# Altium schematic symbol library Comp.SchLib: 212 symbols (part 2 of 2)
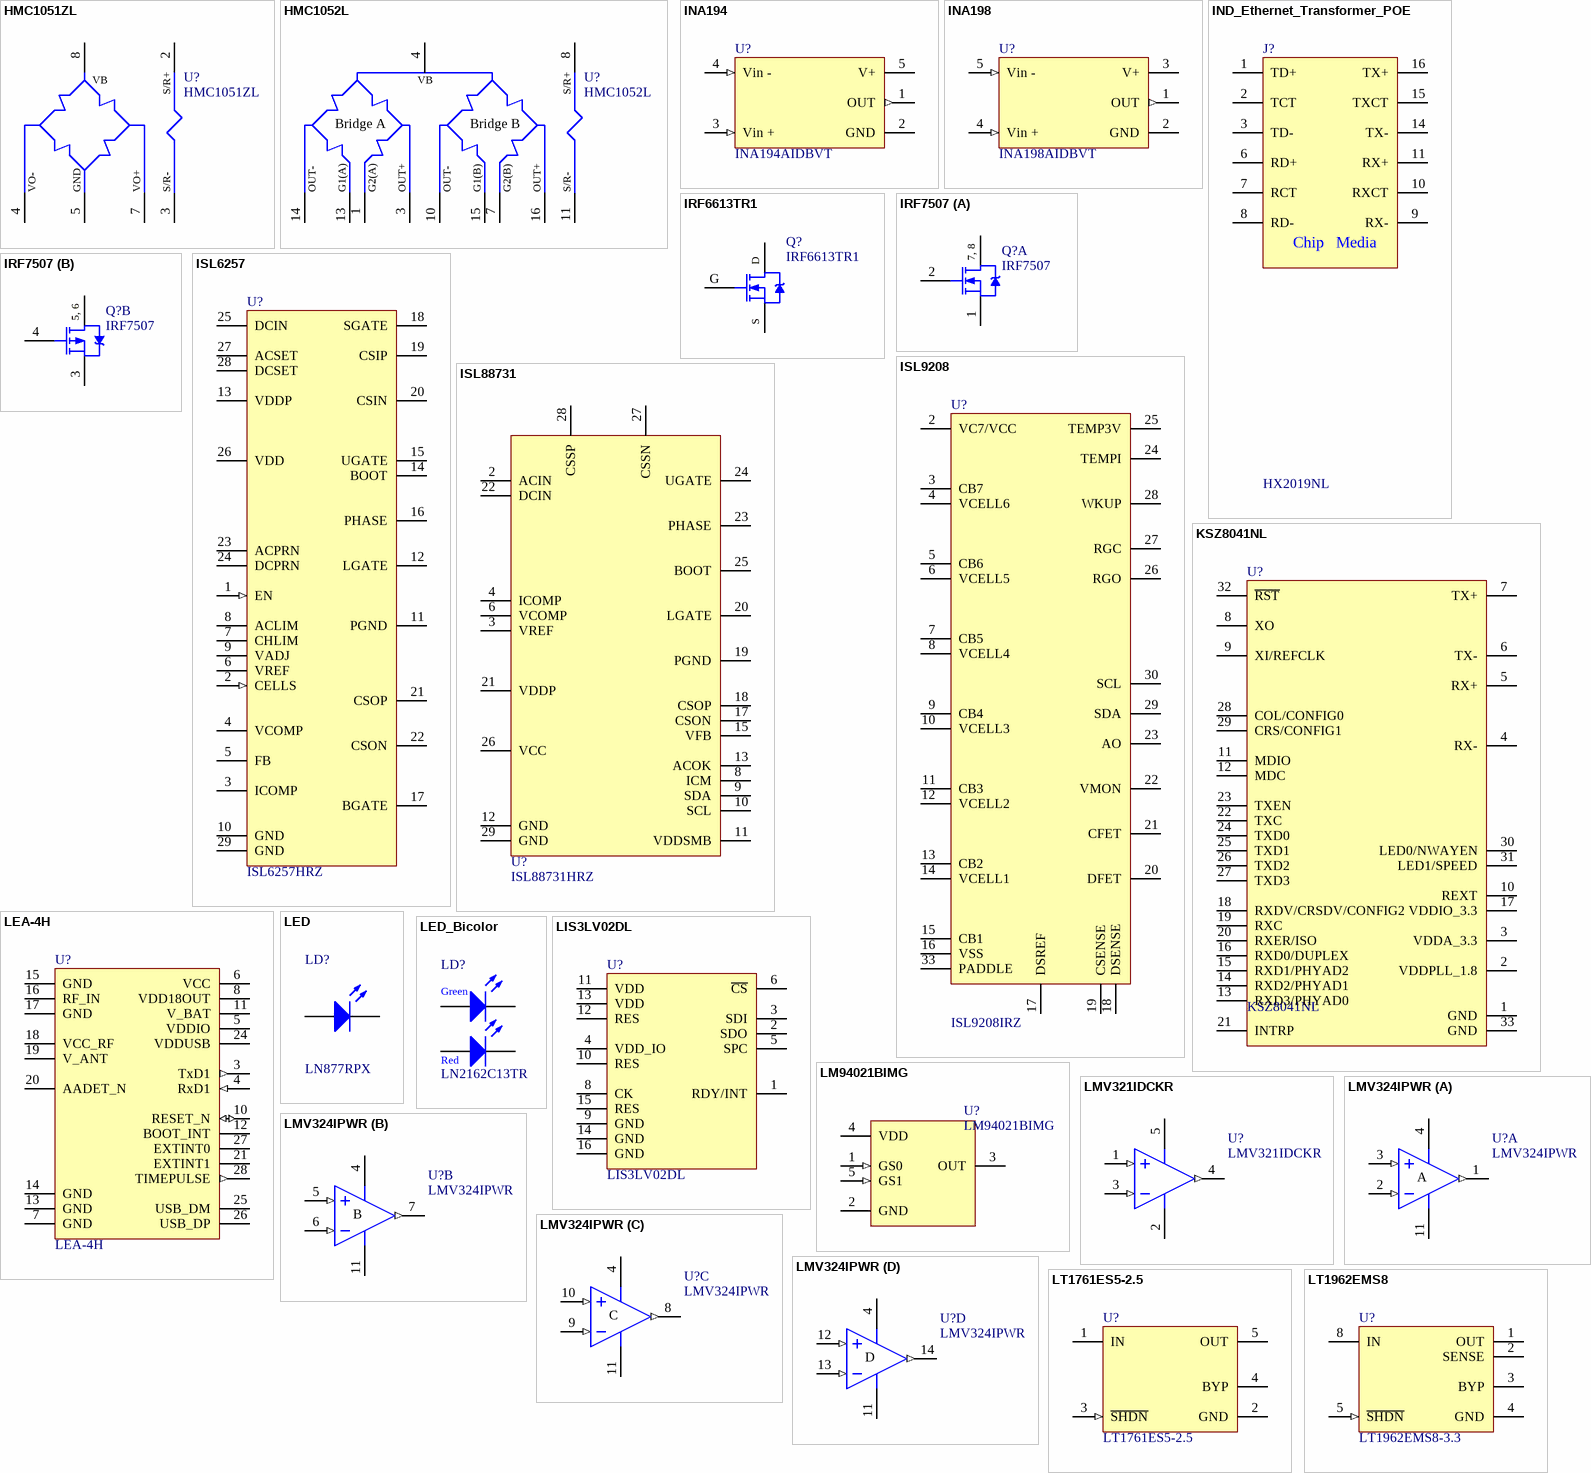
[diagram p12: symbols HMC1051ZL to LT1962EMS8]

## IND_Ethernet_Transformer_POE
designator J?, comment HX2019NL
Ethernet transformer 10/100 POE; Manufacturer: Pulse; Distributor: Mouser; OrderCode: HX2019NL
footprint ETHERNET_TRANSF (10/100 Ethernet Transformer POE)
pins: 1 TD+, 2 TCT, 3 TD-, 6 RD+, 7 RCT, 8 RD-, 9 RX-, 10 RXCT, 11 RX+, 14 TX-, 15 TXCT, 16 TX+
text: Chip   Media

## IRF6613TR1
designator Q?
Power MOSFET 3.4 mOhm; Manufacturer: International Rectifier; Distributor: Digikey; OrderCode: IRF6613TR1
footprint DirectFET (DirectFET Power FET)
pins: D, G, S

## IRF7507
designator Q?
HEXFET Power MOSFET; Manufacturer: International Rectifier; Distributor: Digikey
footprint Micro-8/P.65 (MSOP, Plastic; 8 Leads; Pitch 0.65 mm)
part A pins: 1 S1, 2 G1, 7 D1, 8 D1
part B pins: 3 S2, 4 G2, 5 D2, 6 D2
part A text: 7, 8
part B text: 5, 6

## ISL6257
designator U?, comment ISL6257HRZ
Battery Charger; Manufacturer: Intersil; Distributor: Intersil Samples (4 ordered); OrderCode: ISL6257HRZ
footprint QFN5X5-28 (Quad Flat No Lead, Plastic; 28 Terminals; Body 5 x 5 mm; Pitch 0.5 mm)
pins: 1 EN (in), 2 CELLS (in), 3 ICOMP, 4 VCOMP, 5 FB, 6 VREF, 7 CHLIM, 8 ACLIM, 9 VADJ, 10 GND (power), 11 PGND (power), 12 LGATE, 13 VDDP, 14 BOOT, 15 UGATE, 16 PHASE, 17 BGATE, 18 SGATE, 19 CSIP, 20 CSIN, 21 CSOP, 22 CSON, 23 ACPRN (oc), 24 DCPRN (oc), 25 DCIN, 26 VDD, 27 ACSET, 28 DCSET, 29 GND (power)

## ISL9208
designator U?, comment ISL9208IRZ
Battery Cell Balancer; Manufacturer: Intersil; Distributor: Intersil Samples; OrderCode: ISL9208IRZ
footprint QFN5X5-32 (Quad Flat No Lead; 32 Terminals; Body 5 x 5 mm; Pitch 0.5 mm)
pins: 2 VC7/VCC, 3 CB7, 4 VCELL6, 5 CB6, 6 VCELL5, 7 CB5, 8 VCELL4, 9 CB4, 10 VCELL3, 11 CB3, 12 VCELL2, 13 CB2, 14 VCELL1, 15 CB1, 16 VSS (power), 17 DSREF, 18 DSENSE, 19 CSENSE, 20 DFET, 21 CFET, 22 VMON, 23 AO, 24 TEMPI, 25 TEMP3V, 26 RGO, 27 RGC, 28 WKUP, 29 SDA, 30 SCL, 33 PADDLE (power)

## ISL88731
designator U?, comment ISL88731HRZ
Battery Charger; Manufacturer: Intersil; Distributor: Intersil Samples; OrderCode: ISL88731HRZ
footprint QFN5X5-28 (Quad Flat No Lead, Plastic; 28 Terminals; Body 5 x 5 mm; Pitch 0.5 mm)
pins: 2 ACIN, 3 VREF, 4 ICOMP, 6 VCOMP, 8 ICM, 9 SDA, 10 SCL, 11 VDDSMB, 12 GND (power), 13 ACOK, 15 VFB, 17 CSON, 18 CSOP, 19 PGND (power), 20 LGATE, 21 VDDP, 22 DCIN, 23 PHASE, 24 UGATE, 25 BOOT, 26 VCC, 27 CSSN, 28 CSSP, 29 GND (power)

## KSZ8041NL
designator U?
Ethernet transceiver 10/100; Manufacturer: Micrel; OrderCode: KSZ8041NL TR; Distributor: Digikey
footprint QFN5X5-32 (Quad Flat No Lead; 32 Terminals; Body 5 x 5 mm; Pitch 0.5 mm)
pins: 1 GND, 2 VDDPLL_1.8, 3 VDDA_3.3, 4 RX-, 5 RX+, 6 TX-, 7 TX+, 8 XO, 9 XI/REFCLK, 10 REXT, 11 MDIO, 12 MDC, 13 RXD3/PHYAD0, 14 RXD2/PHYAD1, 15 RXD1/PHYAD2, 16 RXD0/DUPLEX, 17 VDDIO_3.3, 18 RXDV/CRSDV/CONFIG2, 19 RXC, 20 RXER/ISO, 21 INTRP, 22 TXC, 23 TXEN, 24 TXD0, 25 TXD1, 26 TXD2, 27 TXD3, 28 COL/CONFIG0, 29 CRS/CONFIG1, 30 LED0/NWAYEN, 31 LED1/SPEED, 32 ~{RST}, 33 GND

## LEA-4H
designator U?
GPS Receiver; Manufacturer: u-blox; OrderCode: LEA-4H-0-000-0; Distributor: u-blox
footprint GPS_LEA_4H (GPS Macrocomponent)
pins: 3 TxD1 (out), 4 RxD1 (in), 5 VDDIO (power), 6 VCC (power), 7 GND (power), 8 VDD18OUT, 10 RESET_N (io), 11 V_BAT (power), 12 BOOT_INT, 13 GND (power), 14 GND (power), 15 GND (power), 16 RF_IN, 17 GND (power), 18 VCC_RF, 19 V_ANT, 20 AADET_N, 21 EXTINT1, 24 VDDUSB, 25 USB_DM, 26 USB_DP, 27 EXTINT0, 28 TIMEPULSE (out)

## LED
designator LD?, comment LN877RPX
Through-hole LED (bent to 90 degree), 3mm cylinder; Manufacturer: Panasonic; Distributor: Digikey; OrderCode: LN877RPX
footprint LED-90 (3mm LED, 90 degree, 2.54 mm pitch)
pins: A A_R, K K_R

## LED_Bicolor
designator LD?, comment LN2162C13TR
Bicolor LED; Manufacturer: Panasonic; Distributor: Digikey; OrderCode: LN2162C13TR
footprint LED_DUAL (Dual-Color SMD LED)
pins: 1 A_R, 2 K_R, 3 K_G, 4 A_G
text: Green; Red

## LIS3LV02DL
designator U?
SPI 3D Accelerometer; Manufacturer: ST; OrderCode: LIS3LV02DL; Distributor: Digikey
footprint LIS3LV02DL (3D Accelerometer)
pins: 1 RDY/INT, 2 SDO, 3 SDI, 4 VDD_IO, 5 SPC, 6 ~{CS}, 8 CK, 9 GND, 10 RES, 11 VDD, 12 RES, 13 VDD, 14 GND, 15 RES, 16 GND

## LM94021BIMG
designator U?
Temperature sensor - analog; Manufacturer: National; OrderCode: LM94021BIMG/NOPB; Distributor: Digikey
footprint SC70-5 (SC-70; 5 Leads)
pins: 1 GS0 (in), 2 GND (power), 3 OUT, 4 VDD (power), 5 GS1 (in)

## LMV321IDCKR
designator U?
Rail-to-Rail Operational Amplifier; Manufacturer: Texas Instruments; Distributor: Digikey; OrderCode: LMV321IDCKR
footprint SC70-5 (SC-70; 5 Leads)
pins: 1 IN- (in), 2 V- (power), 3 IN+ (in), 4 OUT (out), 5 V+ (power)

## LMV324IPWR
designator U?
Rail-to-Rail Operational Amplifier; Manufacturer: Texas Instruments; Distributor: Digikey; OrderCode: LMV324IPWR
footprint TSSO5x6-G14/X.3 (Shrink Small Outline; 14 Leads; Body Width 4.4 mm; Pitch 0.65 mm)
pins on every part: 4 V+ (power), 11 V- (power)
part A pins: 1 OUT (out), 2 IN- (in), 3 IN+ (in)
part B pins: 5 IN+ (in), 6 IN- (in), 7 OUT (out)
part C pins: 8 OUT (out), 9 IN- (in), 10 IN+ (in)
part D pins: 12 IN+ (in), 13 IN- (in), 14 OUT (out)
part A text: A
part B text: B
part C text: C
part D text: D

## LT1761ES5-2.5
designator U?
LDO low-noise 2.5V; Manufacturer: Linear; OrderCode: LT1761ES5-2.5#TRMPBF; Distributor: Linear Samples
footprint SO-G5/P.95 (SOT-23/SC-74A; 5 Leads; Body 3.1 x 3 mm, inc. leads (LxW max))
pins: 1 IN (power), 2 GND (power), 3 ~{SHDN} (in), 4 BYP, 5 OUT (power)

## LT1962EMS8
designator U?, comment LT1962EMS8-3.3
LDO low-noise 3.3V 300 mA; Manufacturer: Linear; Distributor: Digikey; OrderCode: LT1962EMS8-3.3
footprint MSOP-8/P.65 (MSOP, Plastic; 8 Leads; Pitch 0.65 mm)
pins: 1 OUT (power), 2 SENSE, 3 BYP, 4 GND (power), 5 ~{SHDN} (in), 8 IN (power)

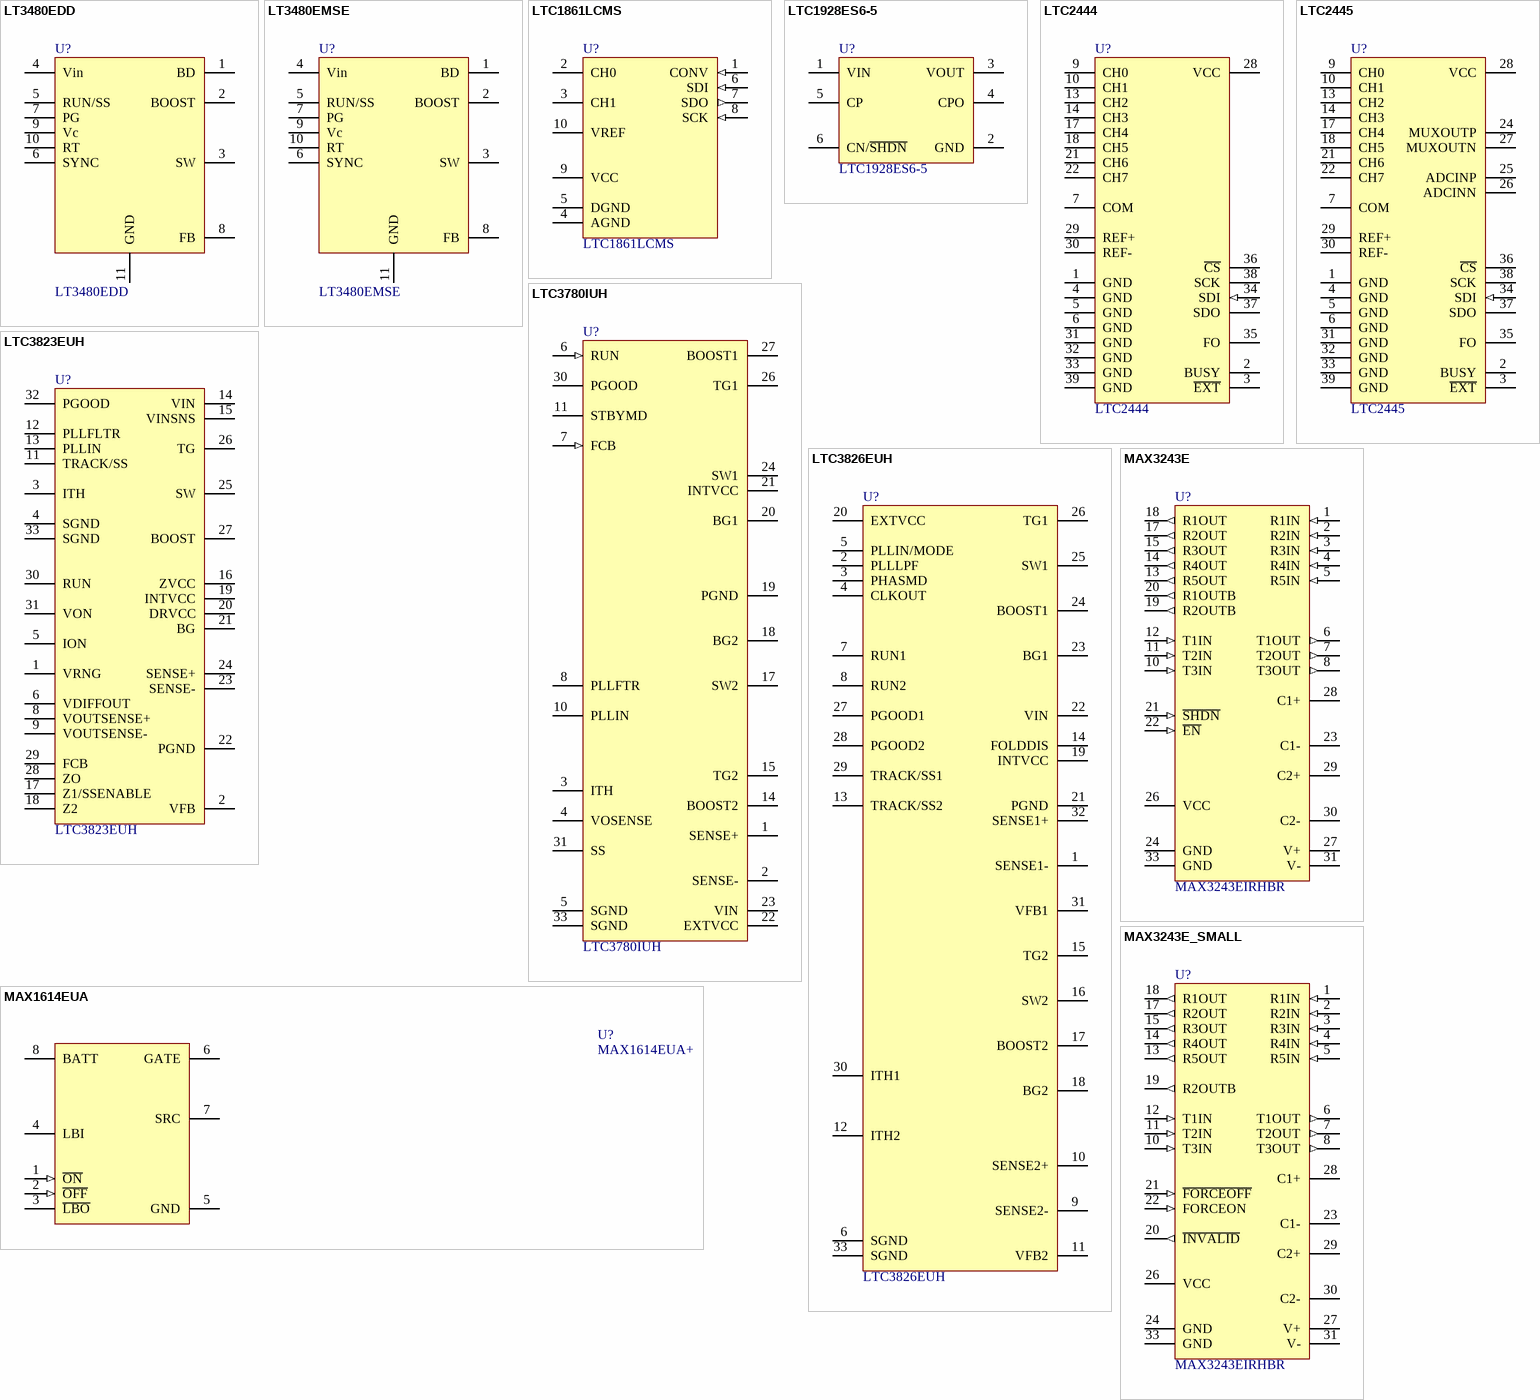
[diagram p8: symbols LT3480EDD to MAX3243E_SMALL]

## LT3480EDD
designator U?
SMPS Regulator 2A; Manufacturer: Linear; OrderCode: LT3480EDD#PBF; Distributor: Digikey
footprint DFN3x3-10
pins: 1 BD, 2 BOOST, 3 SW, 4 Vin, 5 RUN/SS, 6 SYNC, 7 PG, 8 FB, 9 Vc, 10 RT, 11 GND (power)

## LT3480EMSE
designator U?
SMPS Regulator 2A; Manufacturer: Linear; OrderCode: LT3480EMSE#PBF; Distributor: Digikey
footprint MSOP-10-MSE
pins: 1 BD, 2 BOOST, 3 SW, 4 Vin, 5 RUN/SS, 6 SYNC, 7 PG, 8 FB, 9 Vc, 10 RT, 11 GND (power)

## LTC1861LCMS
designator U?
12 bit ADC; Manufacturer: Linear; Distributor: Digikey; OrderCode: LTC1861LCMS
footprint MSOP-10
pins: 1 CONV (in), 2 CH0, 3 CH1, 4 AGND (power), 5 DGND (power), 6 SDI (in), 7 SDO (out), 8 SCK (in), 9 VCC (power), 10 VREF

## LTC1928ES6-5
designator U?
Positive Chargepump 5V; Manufacturer: Linear; Distributor: Linear Samples; OrderCode: LTC1928ES6-5
footprint SO-G6/P.95 (SOT-457/SC-74; 6 Leads; Body 3.1 x 3 mm, inc. leads (LxW max))
pins: 1 VIN (power), 2 GND (power), 3 VOUT (power), 4 CPO, 5 CP, 6 CN/~{SHDN}

## LTC2444
designator U?
24 bit ADC; Manufacturer: Linear; OrderCode: LTC2444IUHF; Distributor: Digikey
footprint QFN5X7-38 (Quad Flat No Lead; 38 Terminals; Body 5 x 7 mm; Pitch 0.5 mm)
pins: 1 GND (power), 2 BUSY, 3 ~{EXT}, 4 GND (power), 5 GND (power), 6 GND (power), 7 COM, 9 CH0, 10 CH1, 13 CH2, 14 CH3, 17 CH4, 18 CH5, 21 CH6, 22 CH7, 28 VCC (power), 29 REF+, 30 REF-, 31 GND (power), 32 GND (power), 33 GND (power), 34 SDI (in), 35 FO, 36 ~{CS}, 37 SDO, 38 SCK, 39 GND (power)

## LTC2445
designator U?
24 bit ADC; Manufacturer: Linear; OrderCode: LTC2445IUHF; Distributor: Digikey
footprint QFN5X7-38 (Quad Flat No Lead; 38 Terminals; Body 5 x 7 mm; Pitch 0.5 mm)
pins: 1 GND (power), 2 BUSY, 3 ~{EXT}, 4 GND (power), 5 GND (power), 6 GND (power), 7 COM, 9 CH0, 10 CH1, 13 CH2, 14 CH3, 17 CH4, 18 CH5, 21 CH6, 22 CH7, 24 MUXOUTP, 25 ADCINP, 26 ADCINN, 27 MUXOUTN, 28 VCC (power), 29 REF+, 30 REF-, 31 GND (power), 32 GND (power), 33 GND (power), 34 SDI (in), 35 FO, 36 ~{CS}, 37 SDO, 38 SCK, 39 GND (power)

## LTC3780IUH
designator U?
SMPS Controller; Manufacturer: Linear; OrderCode: LTC3780IUH#PBF; Distributor: Digikey (2 Linear samples requested)
footprint QFN5X5-32 (Quad Flat No Lead; 32 Terminals; Body 5 x 5 mm; Pitch 0.5 mm)
pins: 1 SENSE+, 2 SENSE-, 3 ITH, 4 VOSENSE, 5 SGND (power), 6 RUN (in), 7 FCB (in), 8 PLLFTR, 10 PLLIN, 11 STBYMD, 14 BOOST2, 15 TG2, 17 SW2, 18 BG2, 19 PGND (power), 20 BG1, 21 INTVCC, 22 EXTVCC, 23 VIN, 24 SW1, 26 TG1, 27 BOOST1, 30 PGOOD (oc), 31 SS, 33 SGND (power)

## LTC3823EUH
designator U?
SMPS Controller; Manufacturer: Linear; OrderCode: LTC3823EUH#PBF; Distributor: Digikey (2 Linear samples requested)
footprint QFN5X5-32 (Quad Flat No Lead; 32 Terminals; Body 5 x 5 mm; Pitch 0.5 mm)
pins: 1 VRNG, 2 VFB, 3 ITH, 4 SGND (power), 5 ION, 6 VDIFFOUT, 8 VOUTSENSE+, 9 VOUTSENSE-, 11 TRACK/SS, 12 PLLFLTR, 13 PLLIN, 14 VIN, 15 VINSNS, 16 ZVCC, 17 Z1/SSENABLE, 18 Z2, 19 INTVCC, 20 DRVCC, 21 BG, 22 PGND (power), 23 SENSE-, 24 SENSE+, 25 SW, 26 TG, 27 BOOST, 28 ZO, 29 FCB, 30 RUN, 31 VON, 32 PGOOD, 33 SGND (power)

## LTC3826EUH
designator U?
SMPS Controller; Manufacturer: Linear; OrderCode: LTC3826EUH#PBF; Distributor: Digikey
footprint QFN5X5-32 (Quad Flat No Lead; 32 Terminals; Body 5 x 5 mm; Pitch 0.5 mm)
pins: 1 SENSE1-, 2 PLLLPF, 3 PHASMD, 4 CLKOUT, 5 PLLIN/MODE, 6 SGND (power), 7 RUN1, 8 RUN2, 9 SENSE2-, 10 SENSE2+, 11 VFB2, 12 ITH2, 13 TRACK/SS2, 14 FOLDDIS, 15 TG2, 16 SW2, 17 BOOST2, 18 BG2, 19 INTVCC, 20 EXTVCC, 21 PGND (power), 22 VIN, 23 BG1, 24 BOOST1, 25 SW1, 26 TG1, 27 PGOOD1, 28 PGOOD2, 29 TRACK/SS1, 30 ITH1, 31 VFB1, 32 SENSE1+, 33 SGND (power)

## MAX1614EUA
designator U?, comment MAX1614EUA+
High-side n-ch FET driver; Manufacturer: MAXIM; Distributor: Digikey; OrderCode: MAX1614EUA+
footprint MSOP-8/P.65 (MSOP, Plastic; 8 Leads; Pitch 0.65 mm)
pins: 1 ~{ON} (in), 2 ~{OFF} (in), 3 ~{LBO} (oc), 4 LBI, 5 GND (power), 6 GATE, 7 SRC, 8 BATT

## MAX3243E
designator U?, comment MAX3243EIRHBR
RS232 Transceiver; Manufacturer: MAXIM; Distributor: Maxim; OrderCode: MAX3243EIRHBR
footprint QFN7X7-32 (Quad Flat No Lead, Plastic; 32 Terminals; Body 7 x 7 mm; Pitch 0.65 mm)
pins: 1 R1IN (in), 2 R2IN (in), 3 R3IN (in), 4 R4IN (in), 5 R5IN (in), 6 T1OUT (out), 7 T2OUT (out), 8 T3OUT (out), 10 T3IN (in), 11 T2IN (in), 12 T1IN (in), 13 R5OUT (out), 14 R4OUT (out), 15 R3OUT (out), 17 R2OUT (out), 18 R1OUT (out), 19 R2OUTB (out), 20 R1OUTB (out), 21 ~{SHDN} (in), 22 ~{EN} (in), 23 C1-, 24 GND (power), 26 VCC (power), 27 V+, 28 C1+, 29 C2+, 30 C2-, 31 V-, 33 GND (power)

## MAX3243E_SMALL
designator U?, comment MAX3243EIRHBR
RS232 Transceiver; Manufacturer: Texas Instruments; Distributor: Digikey; OrderCode: MAX3243EIRHBR
footprint QFN5X5-32 (Quad Flat No Lead; 32 Terminals; Body 5 x 5 mm; Pitch 0.5 mm)
pins: 1 R1IN (in), 2 R2IN (in), 3 R3IN (in), 4 R4IN (in), 5 R5IN (in), 6 T1OUT (out), 7 T2OUT (out), 8 T3OUT (out), 10 T3IN (in), 11 T2IN (in), 12 T1IN (in), 13 R5OUT (out), 14 R4OUT (out), 15 R3OUT (out), 17 R2OUT (out), 18 R1OUT (out), 19 R2OUTB (out), 20 ~{INVALID} (out), 21 ~{FORCEOFF} (in), 22 FORCEON (in), 23 C1-, 24 GND (power), 26 VCC (power), 27 V+, 28 C1+, 29 C2+, 30 C2-, 31 V-, 33 GND (power)

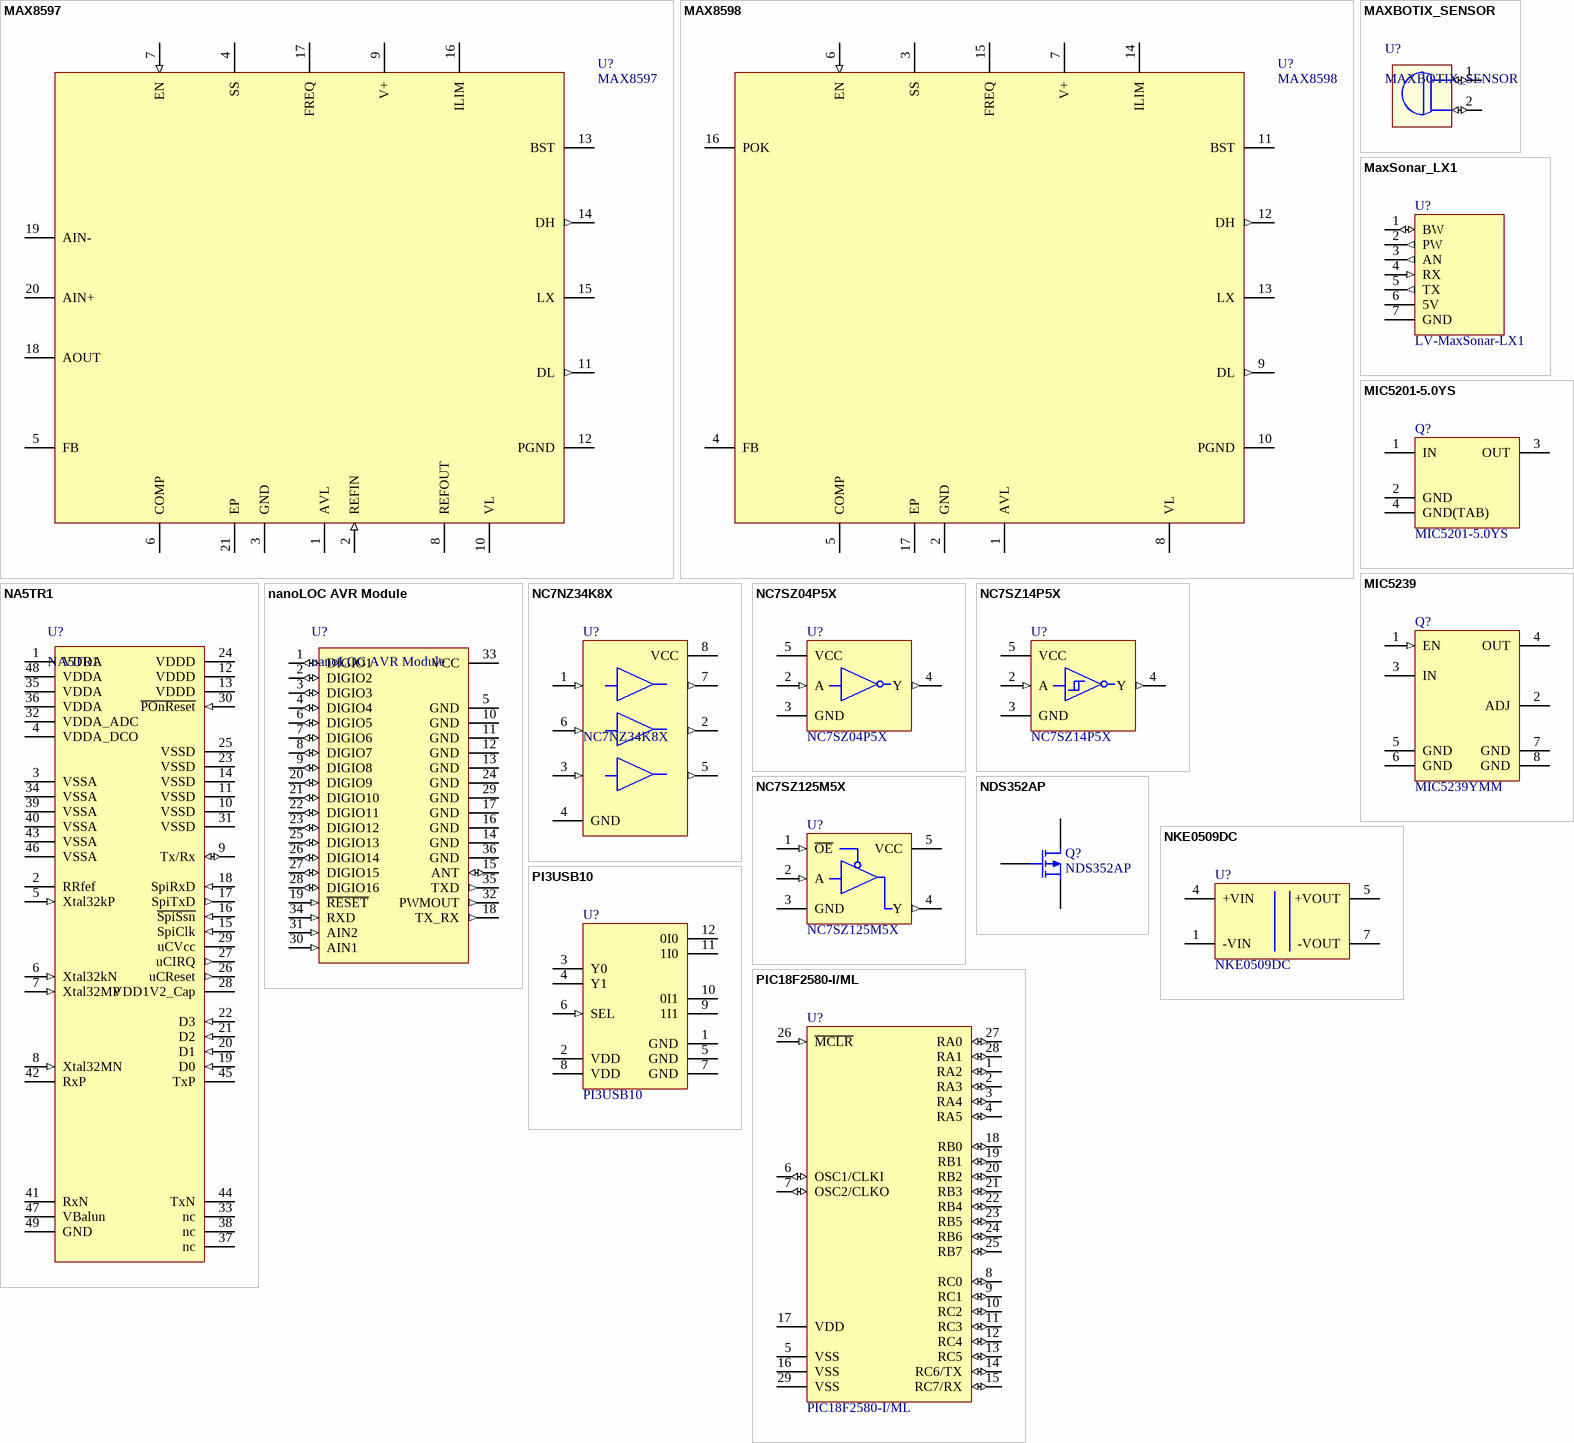
[diagram p9: symbols MAX8597 to PIC18F2580-I/ML]

## MAX8597
designator U?
SMPS Controller; Manufacturer: MAXIM; OrderCode: MAX8597ETP+; Distributor: Maxim Samples
footprint QFN4X4-20 (Quad Flat No Lead; 20 Terminals; Body 4 x 4 mm; Pitch 0.5 mm)
pins: 1 AVL, 2 REFIN (in), 3 GND (power), 4 SS, 5 FB, 6 COMP, 7 EN (in), 8 REFOUT, 9 V+ (power), 10 VL, 11 DL (out), 12 PGND (power), 13 BST, 14 DH (out), 15 LX, 16 ILIM, 17 FREQ, 18 AOUT, 19 AIN-, 20 AIN+, 21 EP

## MAX8598
designator U?
SMPS Controller; Manufacturer: MAXIM; OrderCode: MAX8598ETE+; Distributor: Maxim Samples
footprint QFN4X4-16 (Quad Flat No Lead, Plastic; 16 Terminals; Body 4 x 4 mm; Pitch 0.65 mm)
pins: 1 AVL, 2 GND (power), 3 SS, 4 FB, 5 COMP, 6 EN (in), 7 V+ (power), 8 VL, 9 DL (out), 10 PGND (power), 11 BST, 12 DH (out), 13 LX, 14 ILIM, 15 FREQ, 16 POK (oc), 17 EP

## MAXBOTIX_SENSOR
designator U?
Maxbotix Ultrasonic Sensor; Distibutor: *; Manufacturer: Maxbotix; OrderCode: *
footprint Maxbotix Sensor (Maxbotix Ultrasonic Sensor)
pins: 1 SNSR_1 (io), 2 SNSR_2 (io)

## MaxSonar_LX1
designator U?, comment LV-MaxSonar-LX1
Maxbotix ultrasound range sensor; Manufacturer: Maxbotix
footprint MaxSonar (MaxSonar Module)
pins: 1 BW (io), 2 PW (out), 3 AN (out), 4 RX (in), 5 TX (out), 6 5V (power), 7 GND (power)

## MIC5201-5.0YS
designator Q?
5V LDO 200mA; Manufacturer: Micrel; OrderCode: MIC5201-5.0YS; Distributor: Digikey
footprint DSO-G3 (SOT-223/SC-73; 4 Leads; Body 6.7 x 7.3 mm, inc. leads (LxW max))
pins: 1 IN (power), 2 GND (power), 3 OUT, 4 GND(TAB) (power)

## MIC5239
designator Q?, comment MIC5239YMM
Adjustable LDO; Manufacturer: Micrel; OrderCode: MIC5239YMM; Distributor: Digikey
footprint MSOP-8/P.65 (MSOP, Plastic; 8 Leads; Pitch 0.65 mm)
pins: 1 EN (in), 2 ADJ, 3 IN (power), 4 OUT, 5 GND (power), 6 GND (power), 7 GND (power), 8 GND (power)

## NA5TR1
designator U?
NanoLOC TRX Transceiver; Manufacturer: Nanotron Technologies; Distributor: *; OrderCode: *
footprint VFQFPN7x7-48 (Very thin Quad Flat Package No Lead)
pins: 1 VDDA (power), 2 RRfef, 3 VSSA (power), 4 VDDA_DCO (power), 5 Xtal32kP (in), 6 Xtal32kN (in), 7 Xtal32MP (in), 8 Xtal32MN (in), 9 Tx/Rx (io), 10 VSSD (power), 11 VSSD (power), 12 VDDD (power), 13 VDDD (power), 14 VSSD (power), 15 SpiClk (in), 16 ~{SpiSsn} (in), 17 SpiTxD (out), 18 SpiRxD (in), 19 D0 (in), 20 D1 (in), 21 D2 (in), 22 D3 (in), 23 VSSD (power), 24 VDDD (power), 25 VSSD (power), 26 uCReset (out), 27 uCIRQ (out), 28 VDD1V2_Cap, 29 uCVcc (power), 30 ~{POnReset} (in), 31 VSSD (power), 32 VDDA_ADC (power), 33 nc, 34 VSSA (power), 35 VDDA (power), 36 VDDA (power), 37 nc, 38 nc, 39 VSSA (power), 40 VSSA (power), 41 RxN, 42 RxP, 43 VSSA (power), 44 TxN, 45 TxP, 46 VSSA (power), 47 VBalun (power), 48 VDDA (power), 49 GND (power)

## nanoLOC AVR Module
designator U?
Radio Transceiver and Localisation module; Manufacturer: NanoTron Inc.; Distributor: *; OrderCode: *
footprint nano_LOC_AVR_Module35x14 (Footprint for the nano_LOC_AVR_Module)
pins: 1 DIGIO1 (io), 2 DIGIO2 (io), 3 DIGIO3 (io), 4 DIGIO4 (io), 5 GND (power), 6 DIGIO5 (io), 7 DIGIO6 (io), 8 DIGIO7 (io), 9 DIGIO8 (io), 10 GND (power), 11 GND (power), 12 GND (power), 13 GND (power), 14 GND (power), 15 ANT (io), 16 GND (power), 17 GND (power), 18 TX_RX (out), 19 ~{RESET} (in), 20 DIGIO9 (io), 21 DIGIO10 (io), 22 DIGIO11 (io), 23 DIGIO12 (io), 24 GND (power), 25 DIGIO13 (io), 26 DIGIO14 (io), 27 DIGIO15 (io), 28 DIGIO16 (io), 29 GND (power), 30 AIN1 (in), 31 AIN2 (in), 32 PWMOUT (out), 33 VCC (power), 34 RXD (in), 35 TXD (out), 36 GND (power)

## NC7NZ34K8X
designator U?
3-Bit Low Power Buffer; Manufacturer: Fairchild; Distributor: Digikey; OrderCode: NC7NZ34K8X
footprint US8 (8 leads, 0.5mm pitch)
pins: 1 (in), 2 (out), 3 (in), 4 GND (power), 5 (out), 6 (in), 7 (out), 8 VCC (power)

## NC7SZ04P5X
designator U?
1-Bit Low Power Inverter; Manufacturer: Fairchild; Distributor: Digikey; OrderCode: NC7SZ04P5X
footprint SC70-5 (SC-70; 5 Leads)
pins: 2 A (in), 3 GND (power), 4 Y (out), 5 VCC (power)

## NC7SZ14P5X
designator U?
1-Bit Low Power Inverter Schmitt Trigger; Manufacturer: Fairchild; Distributor: Digikey; OrderCode: NC7SZ14P5X
footprint SC70-5 (SC-70; 5 Leads)
pins: 2 A (in), 3 GND (power), 4 Y (out), 5 VCC (power)

## NC7SZ125M5X
designator U?
1-Bit Low Power Buffer; Manufacturer: Fairchild; Distributor: Digikey; OrderCode: NC7SZ125M5X
footprint SC70-5 (SC-70; 5 Leads)
pins: 1 ~{OE} (in), 2 A (in), 3 GND (power), 4 Y (out), 5 VCC (power)

## NDS352AP
designator Q?
P-Channel Enhancement Mode FET; Manufacturer: Fairchild; Distributor: Digikey; OrderCode: NDS352AP
footprint SO-G3/X.9 (SOT-23; 3 Leads; Body 3.1 x 2.5 mm, inc. leads (LxW max), Alternate Lead Configuration)
pins: 1 D, 2 S, 3 G

## NKE0509DC
designator U?
Isolated DC/DC converter 5V in, 9V out; Manufacturer: C&D Technologies; OrderCode: NKE0509DC; Distributor: Mouser
footprint NKE_DC_DC (DC-DC module)
pins: 1 -VIN, 4 +VIN, 5 +VOUT, 7 -VOUT

## PI3USB10
designator U?
USB Signal Switch; Manufacturer: Pericom; OrderCode: PI3USB10MZKEX; Distributor: Digikey
footprint TDFN3.5x3-12 (12 Terminals; Body 3.5 x 3 mm; Pitch 0.5 mm)
pins: 1 GND (power), 2 VDD (power), 3 Y0, 4 Y1, 5 GND (power), 6 SEL (in), 7 GND (power), 8 VDD (power), 9 1I1, 10 0I1, 11 1I0, 12 0I0

## PIC18F2580-I/ML
designator U?
8 bit CAN MCU; Manufacturer: Microchip; Distributor: Digikey; OrderCode: PIC18F2580-I/ML
footprint QFN6X6-28 (Quad Flat No Lead, Plastic, Punch; 28 Terminals; Body 6 x 6 mm; Pitch 0.65 mm)
pins: 1 RA2 (io), 2 RA3 (io), 3 RA4 (io), 4 RA5 (io), 5 VSS (power), 6 OSC1/CLKI (io), 7 OSC2/CLKO (io), 8 RC0 (io), 9 RC1 (io), 10 RC2 (io), 11 RC3 (io), 12 RC4 (io), 13 RC5 (io), 14 RC6/TX (io), 15 RC7/RX (io), 16 VSS (power), 17 VDD (power), 18 RB0 (io), 19 RB1 (io), 20 RB2 (io), 21 RB3 (io), 22 RB4 (io), 23 RB5 (io), 24 RB6 (io), 25 RB7 (io), 26 ~{MCLR} (in), 27 RA0 (io), 28 RA1 (io), 29 VSS (power)

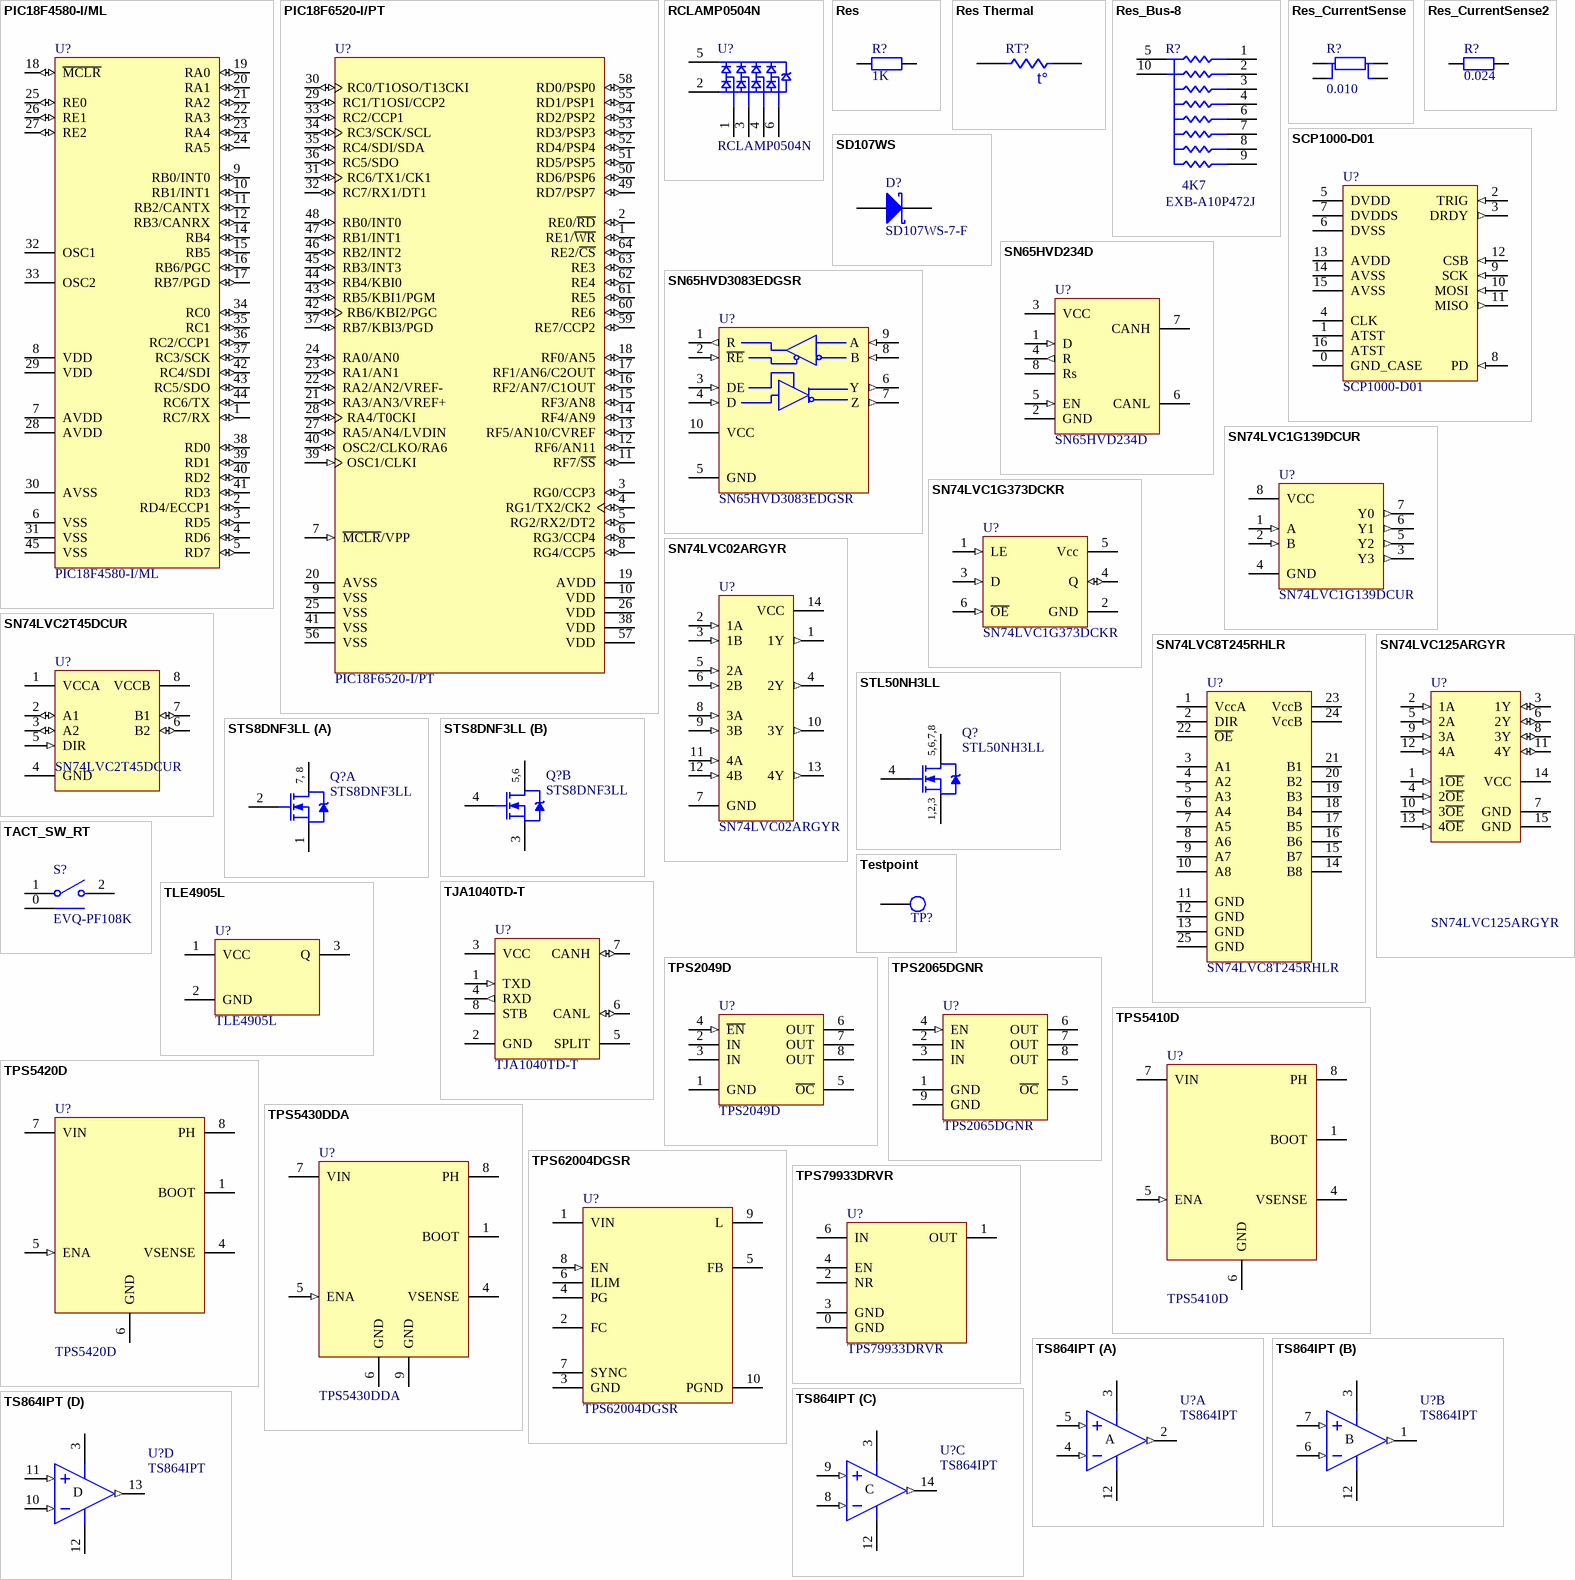
[diagram p10: symbols PIC18F4580-I/ML to TS864IPT]

## PIC18F4580-I/ML
designator U?
8 bit CAN MCU; Manufacturer: Microchip; Distributor: Digikey; OrderCode: PIC18F4580-I/ML
footprint QFN8X8-44 (Quad Flat No Lead, Plastic; 44 Terminals; Body 8 x 8 mm; Pitch 0.65 mm)
pins: 1 RC7/RX (io), 2 RD4/ECCP1 (io), 3 RD5 (io), 4 RD6 (io), 5 RD7 (io), 6 VSS (power), 7 AVDD (power), 8 VDD (power), 9 RB0/INT0 (io), 10 RB1/INT1 (io), 11 RB2/CANTX (io), 12 RB3/CANRX (io), 14 RB4 (io), 15 RB5 (io), 16 RB6/PGC (io), 17 RB7/PGD (io), 18 ~{MCLR} (io), 19 RA0 (io), 20 RA1 (io), 21 RA2 (io), 22 RA3 (io), 23 RA4 (io), 24 RA5 (io), 25 RE0 (io), 26 RE1 (io), 27 RE2 (io), 28 AVDD (power), 29 VDD (power), 30 AVSS (power), 31 VSS (power), 32 OSC1, 33 OSC2, 34 RC0 (io), 35 RC1 (io), 36 RC2/CCP1 (io), 37 RC3/SCK (io), 38 RD0 (io), 39 RD1 (io), 40 RD2 (io), 41 RD3 (io), 42 RC4/SDI (io), 43 RC5/SDO (io), 44 RC6/TX (io), 45 VSS (power)

## PIC18F6520-I/PT
designator U?
PIC18 Microcontroller 64 pin; Manufacturer: Microchip; Distributor: Digikey; OrderCode: PIC18F6520-I/PT
footprint TQFP-64_N (Thin QFP, 64-Leads, Body 10x10mm, Pitch 0.5mm, IPC Medium Density)
pins: 1 RE1/~{WR} (io), 2 RE0/~{RD} (io), 3 RG0/CCP3 (io), 4 RG1/TX2/CK2 (io), 5 RG2/RX2/DT2 (io), 6 RG3/CCP4 (io), 7 ~{MCLR}/VPP (in), 8 RG4/CCP5 (io), 9 VSS (power), 10 VDD (power), 11 RF7/~{SS} (io), 12 RF6/AN11 (io), 13 RF5/AN10/CVREF (io), 14 RF4/AN9 (io), 15 RF3/AN8 (io), 16 RF2/AN7/C1OUT (io), 17 RF1/AN6/C2OUT (io), 18 RF0/AN5 (io), 19 AVDD (power), 20 AVSS (power), 21 RA3/AN3/VREF+ (io), 22 RA2/AN2/VREF- (io), 23 RA1/AN1 (io), 24 RA0/AN0 (io), 25 VSS (power), 26 VDD (power), 27 RA5/AN4/LVDIN (io), 28 RA4/T0CKI (io), 29 RC1/T1OSI/CCP2 (io), 30 RC0/T1OSO/T13CKI (io), 31 RC6/TX1/CK1 (io), 32 RC7/RX1/DT1 (io), 33 RC2/CCP1 (io), 34 RC3/SCK/SCL (io), 35 RC4/SDI/SDA (io), 36 RC5/SDO (io), 37 RB7/KBI3/PGD (io), 38 VDD (power), 39 OSC1/CLKI (in), 40 OSC2/CLKO/RA6 (io), 41 VSS (power), 42 RB6/KBI2/PGC (io), 43 RB5/KBI1/PGM (io), 44 RB4/KBI0 (io), 45 RB3/INT3 (io), 46 RB2/INT2 (io), 47 RB1/INT1 (io), 48 RB0/INT0 (io), 49 RD7/PSP7 (io), 50 RD6/PSP6 (io), 51 RD5/PSP5 (io), 52 RD4/PSP4 (io), 53 RD3/PSP3 (io), 54 RD2/PSP2 (io), 55 RD1/PSP1 (io), 56 VSS (power), 57 VDD (power), 58 RD0/PSP0 (io), 59 RE7/CCP2 (io), 60 RE6 (io), 61 RE5 (io), 62 RE4 (io), 63 RE3 (io), 64 RE2/~{CS} (io)

## RCLAMP0504N
designator U?
EMI Clamp 4-ch; Manufacturer: SemTech; OrderCode: RCLAMP0504N.TCT; Distributor: Digikey
footprint SLP2020P6
pins: 1, 2 GND, 3, 4, 5 5V, 6

## Res
designator R?  value 1K
Resistor; Distributor: Digikey
simulation model RESISTOR (Resistor)
signal-integrity model Res
footprint CR2012-0805 (Chip Resistor; Body 2.0 x 1.3 mm (LxW typ))
footprint CR1608-0603 (Chip Resistor; Body 1.6 x 0.8 mm (LxW typ))
footprint CR3216-1206 (Chip Resistor; Body 3.2 x 1.6 mm (LxW typ))
pins: 1, 2

## Res Thermal
designator RT?
Thermistor; Distributor: Digikey
footprint CR1608-0603 (Chip Resistor; Body 1.6 x 0.8 mm (LxW typ))
pins: 1, 2
text: t°

## Res_Bus-8
designator R?, comment EXB-A10P472J  value 4K7
Bus Resistor Network 1.27mm pitch; Manufacturer: Panasonic; OrderCode: EXB-A10P472J; Distributor: Digikey
footprint EXBA (Bus resistor)
pins: 1, 2, 3, 4, 5, 6, 7, 8, 9, 10

## Res_CurrentSense
designator R?  value 0.010
Resistor; Distributor: Digikey
footprint CR2010-CS4
footprint CR1206-CS4
pins: 1 I1, 2 I2, 3 V2, 4 V1

## Res_CurrentSense2
designator R?  value 0.024
Resistor; Distributor: Digikey
simulation model RESISTOR (Resistor)
signal-integrity model Res
footprint CR1206-CS2
pins: 1, 2

## SCP1000-D01
designator U?
Pressure Sensor SPI Interface; Manufacturer: VTI Technologies; Distributor: Digikey; OrderCode: SCP1000-D01
footprint SCP1000 (Pressure Sensor)
pins: 0 GND_CASE, 1 ATST, 2 TRIG (in), 3 DRDY (out), 4 CLK, 5 DVDD (power), 6 DVSS (power), 7 DVDDS, 8 PD (in), 9 SCK (in), 10 MOSI (in), 11 MISO (out), 12 CSB (in), 13 AVDD (power), 14 AVSS (power), 15 AVSS (power), 16 ATST

## SD107WS
designator D?, comment SD107WS-7-F
Schottky Diode 30V 100mA SOD323; Manufacturer: Diodes Inc; Distributor: Digikey; OrderCode: SD107WS-7-F
footprint SOD-323 (SOD-323/SC-76; 2 Leads; Body 1.7 x 1.3 mm, (LxW))
simulation model SKYDIODE (Diode)
signal-integrity model D Schottky
pins: 1 A, 2 K

## SN65HVD234D
designator U?
3.3V CAN Transceiver; Manufacturer: Texas Instruments; Distributor: Digikey; OrderCode: SN65HVD234D
footprint SO-G8/E2.9 (Small Outline; 8 Leads; Body Width 3.9 mm; Pitch 1.27 mm)
pins: 1 D (in), 2 GND (power), 3 VCC (power), 4 R (out), 5 EN (in), 6 CANL, 7 CANH, 8 Rs

## SN65HVD3083EDGSR
designator U?
DVR/RCVR RS485 1MBPS; Manufacturer: Texas Instruments; Distributor: Digikey; OrderCode: SN65HVD3083EDGSR
footprint MSOP-10
pins: 1 R (out), 2 ~{RE} (in), 3 DE (in), 4 D (in), 5 GND (power), 6 Y (out), 7 Z (out), 8 B (in), 9 A (in), 10 VCC (power)

## SN74LVC1G139DCUR
designator U?
2 to 4 line decoder; Manufacturer: Texas Instruments; Distributor: Digikey; OrderCode: SN74LVC1G139DCUR
footprint VSSOP8 (0.5mm pitch)
pins: 1 A (in), 2 B (in), 3 Y3 (out), 4 GND (power), 5 Y2 (out), 6 Y1 (out), 7 Y0 (out), 8 VCC (power)

## SN74LVC1G373DCKR
designator U?
1-Bit Low Power Inverter; Manufacturer: Texas Instruments; Distributor: Digikey; OrderCode: SN74LVC1G373DCKR
footprint SC70-6 (SC-70; 6 Leads)
pins: 1 LE (in), 2 GND (power), 3 D (in), 4 Q (io), 5 Vcc (power), 6 ~{OE} (in)

## SN74LVC02ARGYR
designator U?
Quadruple 2-input NOR Gates; Manufacturer: Texas Instruments; Distributor: Digikey; OrderCode: SN74LVC02ARGYR
footprint QFN3.5X3.5-14 (Quad Flat No Lead; 14 Terminals; Body 3.5 x 3.5 mm; Pitch 0.5 mm)
pins: 1 1Y (out), 2 1A (in), 3 1B (in), 4 2Y (out), 5 2A (in), 6 2B (in), 7 GND (power), 8 3A (in), 9 3B (in), 10 3Y (out), 11 4A (in), 12 4B (in), 13 4Y (out), 14 VCC (power)

## SN74LVC2T45DCUR
designator U?
2-Bit Buffer Level Translator; Manufacturer: Texas Instruments; Distributor: Digikey; OrderCode: SN74LVC2T45DCUR
footprint US8 (8 leads, 0.5mm pitch)
pins: 1 VCCA (power), 2 A1 (io), 3 A2 (io), 4 GND (power), 5 DIR (in), 6 B2 (io), 7 B1 (io), 8 VCCB (power)

## SN74LVC8T245RHLR
designator U?
8-ch Level Translator; Manufacturer: Texas Instruments; Distributor: Digikey; OrderCode: SN74LVC8T245RHLR
footprint QFN5.5X3.5-24 (Quad Flat No Lead; 24 Terminals; Body 5.5 x 3.5 mm; Pitch 0.5 mm)
pins: 1 VccA (power), 2 DIR, 3 A1, 4 A2, 5 A3, 6 A4, 7 A5, 8 A6, 9 A7, 10 A8, 11 GND (power), 12 GND (power), 13 GND (power), 14 B8, 15 B7, 16 B6, 17 B5, 18 B4, 19 B3, 20 B2, 21 B1, 22 ~{OE}, 23 VccB (power), 24 VccB (power), 25 GND (power)

## SN74LVC125ARGYR
designator U?
Quadruple 3-state buffer; Manufacturer: Texas Instruments; Distributor: Digikey; OrderCode: SN74LVC125ARGYR
footprint QFN3.5X3.5-14 (Quad Flat No Lead; 14 Terminals; Body 3.5 x 3.5 mm; Pitch 0.5 mm)
pins: 1 1~{OE} (in), 2 1A (in), 3 1Y (io), 4 2~{OE} (in), 5 2A (in), 6 2Y (io), 7 GND (power), 8 3Y (io), 9 3A (in), 10 3~{OE} (in), 11 4Y (io), 12 4A (in), 13 4~{OE} (in), 14 VCC (power), 15 GND (power)

## STL50NH3LL
designator Q?
Power MOSFET; Manufacturer: ST; Distributor: Digikey; OrderCode: STL50NH3LL
footprint SO-G8/PowerFlat
pins: 0 D, 1 S, 2 S, 3 S, 4 G, 5 D, 6 D, 7 D, 8 D
text: 5,6,7,8; 1,2,3

## STS8DNF3LL
designator Q?
Dual Power MOSFET; Manufacturer: ST; Distributor: Digikey; OrderCode: STS8DNF3LL
footprint SO-G8/E2.5 (Small Outline, Plastic; 8 Leads; Body Width 3.9 mm)
part A pins: 1 S, 2 G, 7 D, 8 D
part B pins: 3 S, 4 G, 5 D, 6 D
part A text: 7, 8
part B text: 5,6

## TACT_SW_RT
designator S?, comment EVQ-PF108K
TACT Switch Right Angle; Manufacturer: Panasonic; Distributor: Digikey; OrderCode: EVQ-PF108K
footprint TACT_SW_V (Vertical TACT switch)
pins: 0 GND, 1, 2

## Testpoint
designator TP?  (value not drawn)
footprint TESTPOINT (Testpoint)
pins: 1

## TJA1040TD-T
designator U?
5V CAN Transceiver; Manufacturer: NXP; OrderCode: TJA1040TD-T; Distributor: Digikey
footprint SO-G8/E2.9 (Small Outline; 8 Leads; Body Width 3.9 mm; Pitch 1.27 mm)
pins: 1 TXD (in), 2 GND (power), 3 VCC (power), 4 RXD (out), 5 SPLIT, 6 CANL (io), 7 CANH (io), 8 STB

## TLE4905L
designator U?
Unipolar Magnetic Field Sensor; Manufacturer: Infineon; OrderCode: TLE4905L E6433; Distributor: Digikey
footprint P-SSO-3-2 (Magnetic field sensor)
pins: 1 VCC (power), 2 GND (power), 3 Q (oc)

## TPS2049D
designator U?
USB Power Switch 0.1A; Manufacturer: Texas Instruments; Distributor: Digikey; OrderCode: TPS2049D
footprint SO-G8/D5 (Small Outline, Narrow; 8 Leads; Body Width 3.9 mm; Pitch 1.27 mm)
pins: 1 GND (power), 2 IN (power), 3 IN (power), 4 ~{EN} (in), 5 ~{OC} (oc), 6 OUT, 7 OUT, 8 OUT

## TPS2065DGNR
designator U?
USB Power Switch 1A; Manufacturer: Texas Instruments; Distributor: Digikey; OrderCode: TPS2065DGNR
footprint MSOP-8/P.65 PWR (MSOP, Plastic; 8 Leads; Pitch 0.65 mm)
pins: 1 GND (power), 2 IN (power), 3 IN (power), 4 EN (in), 5 ~{OC} (oc), 6 OUT, 7 OUT, 8 OUT, 9 GND (power)

## TPS5410D
designator U?
Switched Mode Power Regulator 1A; Manufacturer: Texas Instruments; Distributor: Digikey; OrderCode: TPS5410D
footprint SO-G8/E2.9 (Small Outline; 8 Leads; Body Width 3.9 mm; Pitch 1.27 mm)
pins: 1 BOOT, 4 VSENSE, 5 ENA (in), 6 GND (power), 7 VIN (power), 8 PH

## TPS5420D
designator U?
Switched Mode Power Regulator 2A; Manufacturer: Texas Instruments; Distributor: Digikey; OrderCode: TPS5420D
footprint SO-G8/E2.9 (Small Outline; 8 Leads; Body Width 3.9 mm; Pitch 1.27 mm)
pins: 1 BOOT, 4 VSENSE, 5 ENA (in), 6 GND (power), 7 VIN (power), 8 PH

## TPS5430DDA
designator U?
Switched Mode Power Regulator 3A; Manufacturer: Texas Instruments; Distributor: Digikey; OrderCode: TPS5430DDA
footprint SO-G8/E3 (Small Outline; 8 Leads; Body Width 3.9 mm; Pitch 1.27 mm)
pins: 1 BOOT, 4 VSENSE, 5 ENA (in), 6 GND (power), 7 VIN (power), 8 PH, 9 GND (power)

## TPS62004DGSR
designator U?
Switched Mode Power Regulator 600mA 1.5V; Manufacturer: Texas Instruments; Distributor: Digikey; OrderCode: TPS62004DGSR
footprint MSOP-10
pins: 1 VIN (power), 2 FC, 3 GND (power), 4 PG, 5 FB, 6 ILIM, 7 SYNC, 8 EN (in), 9 L, 10 PGND (power)

## TPS79933DRVR
designator U?
LDO REG 200MA 3.3V 6-SON; Manufacturer: Texas Instruments; Distributor: Digikey; OrderCode: TPS79933DRVR
footprint SON-6
pins: 0 GND, 1 OUT, 2 NR, 3 GND, 4 EN, 6 IN

## TS864IPT
designator U?
CMOS Comparator push-pull; Manufacturer: ST; Distributor: Digikey; OrderCode: TS864IPT
footprint TSSO5x6-G14/X.3 (Shrink Small Outline; 14 Leads; Body Width 4.4 mm; Pitch 0.65 mm)
pins on every part: 3 V+ (power), 12 V- (power)
part A pins: 2 OUT (out), 4 IN- (in), 5 IN+ (in)
part B pins: 1 OUT (out), 6 IN- (in), 7 IN+ (in)
part C pins: 8 IN- (in), 9 IN+ (in), 14 OUT (out)
part D pins: 10 IN- (in), 11 IN+ (in), 13 OUT (out)
part A text: A
part B text: B
part C text: C
part D text: D

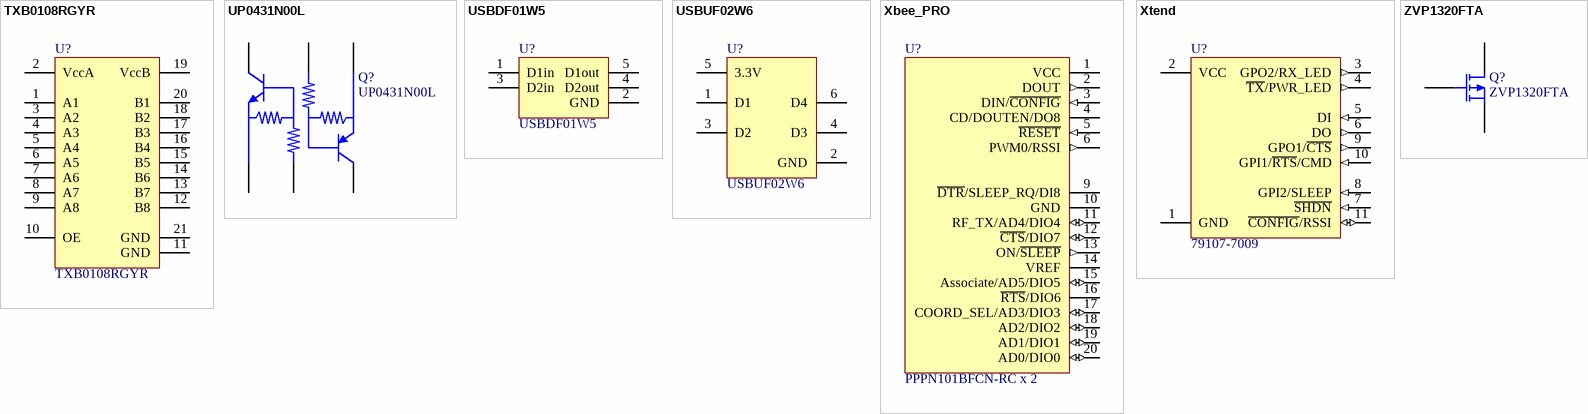
[diagram p11: symbols TXB0108RGYR to ZVP1320FTA]

## TXB0108RGYR
designator U?
8-ch Level Translator; Manufacturer: Texas Instruments; Distributor: Digikey; OrderCode: TXB0108RGYR
footprint QFN4.5X3.5-20 (Quad Flat No Lead; 20 Terminals; Body 4.5 x 3.5 mm; Pitch 0.5 mm)
pins: 1 A1, 2 VccA (power), 3 A2, 4 A3, 5 A4, 6 A5, 7 A6, 8 A7, 9 A8, 10 OE, 11 GND (power), 12 B8, 13 B7, 14 B6, 15 B5, 16 B4, 17 B3, 18 B2, 19 VccB (power), 20 B1, 21 GND (power)

## UP0431N00L
designator Q?
Pre-biased NPN+PNP Bipolar Transistors; Manufacturer: Panasonic; OrderCode: UP0431N00L; Distributor: Digikey
footprint SSMini6-F1 (SMD Dual Transistor 0.5 mm pitch)
pins: 1 E1, 2 B1, 3 C2, 4 E2, 5 B2, 6 C1

## USBDF01W5
designator U?
USB EMI Filter; Manufacturer: ST; Distributor: Digikey; OrderCode: USBDF01W5
footprint SOT-323-5L
pins: 1 D1in, 2 GND, 3 D2in, 4 D2out, 5 D1out

## USBUF02W6
designator U?
USB EMI Filter; Manufacturer: ST; Distributor: Digikey; OrderCode: USBUF02W6
footprint SOT-323-6L
pins: 1 D1, 2 GND, 3 D2, 4 D3, 5 3.3V, 6 D4

## Xbee_PRO
designator U?, comment PPPN101BFCN-RC x 2
Xbee Pro Radio Transceiver; Manufacturer: Sullins Electronics; OrderCode: PPPN101BFCN-RC x 2; Distributor: Digikey
footprint XBEE_pro
pins: 1 VCC (power), 2 DOUT (out), 3 DIN/~{CONFIG} (in), 4 CD/DOUTEN/DO8, 5 ~{RESET} (in), 6 PWM0/RSSI (out), 9 ~{DTR}/SLEEP_RQ/DI8, 10 GND (power), 11 RF_TX/AD4/DIO4 (io), 12 ~{CTS}/DIO7 (io), 13 ON/~{SLEEP} (out), 14 VREF, 15 Associate/AD5/DIO5 (io), 16 ~{RTS}/DIO6, 17 COORD_SEL/AD3/DIO3 (io), 18 AD2/DIO2 (io), 19 AD1/DIO1 (io), 20 AD0/DIO0 (io)

## Xtend
designator U?, comment 79107-7009
Xtend Radio Transceiver Connector; Manufacturer: Molex; OrderCode: 79107-7009; Distributor: Digikey
footprint XTEND (Xtend Radio Transceiver)
footprint XTEND_SMD (Xtend Radio Transceiver)
pins: 1 GND (power), 2 VCC (power), 3 GPO2/RX_LED (out), 4 ~{TX}/PWR_LED (out), 5 DI (in), 6 DO (out), 7 ~{SHDN} (in), 8 GPI2/SLEEP (in), 9 GPO1/~{CTS} (out), 10 GPI1/~{RTS}/CMD (in), 11 ~{CONFIG}/RSSI (io)

## ZVP1320FTA
designator Q?
P-Channel Enhancement Mode FET 100V; Manufacturer: Zetex; Distributor: Digikey; OrderCode: ZVP1320FTA
footprint SO-G3 (SOT-23; 3 Leads; Body 3.0 x 2.6 mm, inc. leads (LxW max))
pins: 1 G, 2 S, 3 D